# EAGLE library part STM32F042G6U6 (library Microcontroller)
IC MCU 32BIT 32KB FLASH 28UFQFPN Manufacturer's datasheet <https://www.st.com/content/ccc/resource/technical/document/datasheet/52/ad/d0/80/e6/be/40/ad/DM00105814.pdf/files/DM00105814.pdf/jcr:content/translations/en.DM00105814.pdf>
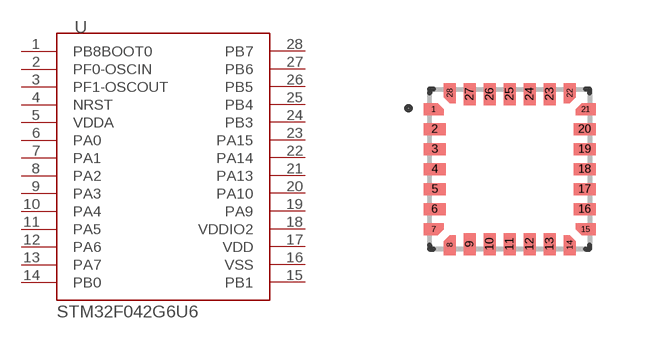
[diagram p33: symbol with the pads of UFQFPN-28; footprint UFQFPN-28]

Designator prefix U

## STM32F042G6U6 (CREATED_BY: PCBLayout.com; DIGIKEY_PARTNO: 497-17345-ND; MANUFACTURER: STMicroelectronics; MPN: STM32F042G6U6; PACKAGE: 28-UFQFPN)  [UFQFPN-28]
1  PB8BOOT0
2  PF0-OSCIN
3  PF1-OSCOUT
4  NRST
5  VDDA  pwr
6  PA0
7  PA1
8  PA2
9  PA3
10  PA4
11  PA5
12  PA6
13  PA7
14  PB0
15  PB1
16  VSS  pwr
17  VDD  pwr
18  VDDIO2  pwr
19  PA9
20  PA10
21  PA13
22  PA14
23  PA15
24  PB3
25  PB4
26  PB5
27  PB6
28  PB7

## Footprint UFQFPN-28 (pad centres in mm)
smd 0.1 x 0.1: 1 -1.9,1.5; 7 -1.9,-1.5; 8 -1.5,-1.9; 14 1.5,-1.9; 15 1.9,-1.5; 21 1.9,1.5; 22 1.5,1.9; 28 -1.5,1.9
smd 0.55 x 0.3: 2 -1.875,1; 3 -1.875,0.5; 4 -1.875,0; 5 -1.875,-0.5; 6 -1.875,-1; 16 1.875,-1; 17 1.875,-0.5; 18 1.875,0; 19 1.875,0.5; 20 1.875,1
smd 0.3 x 0.55: 9 -1,-1.875; 10 -0.5,-1.875; 11 0,-1.875; 12 0.5,-1.875; 13 1,-1.875; 23 1,1.875; 24 0.5,1.875; 25 0,1.875; 26 -0.5,1.875; 27 -1,1.875